# Altium integrated library TMV_0505S.IntLib: 1 symbol
Pins are listed as number, name and electrical type; pins without a type are passive.

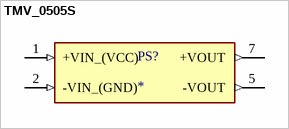
[diagram p0: symbol TMV_0505S]

## TMV_0505S
designator PS?
1 Watt DC/DC converter, industrial, 10% input, unregulated, 3000 VDC I/O-siolation, encapsulated, SIP-7 package; MP: TMV 0505S; MF: Traco Power; Package: SIP-7 Traco Power; Price: None; Availability: In Stock; Value: *; Check_prices: https://www.snapeda.com/parts/TMV%200505S/Traco%20Power/view-part/525316/?ref=eda; SnapEDA_Link: https://www.snapeda.com/parts/TMV%200505S/Traco%20Power/view-part/525316/?ref=snap
footprint CONV_TMV_0505S
pins: 1 +VIN_(VCC) (in), 2 -VIN_(GND) (in), 5 -VOUT (out), 7 +VOUT (out)